# Altium integrated library Micron Memory DDR SDRAM.IntLib: 109 symbols (part 21 of 22)
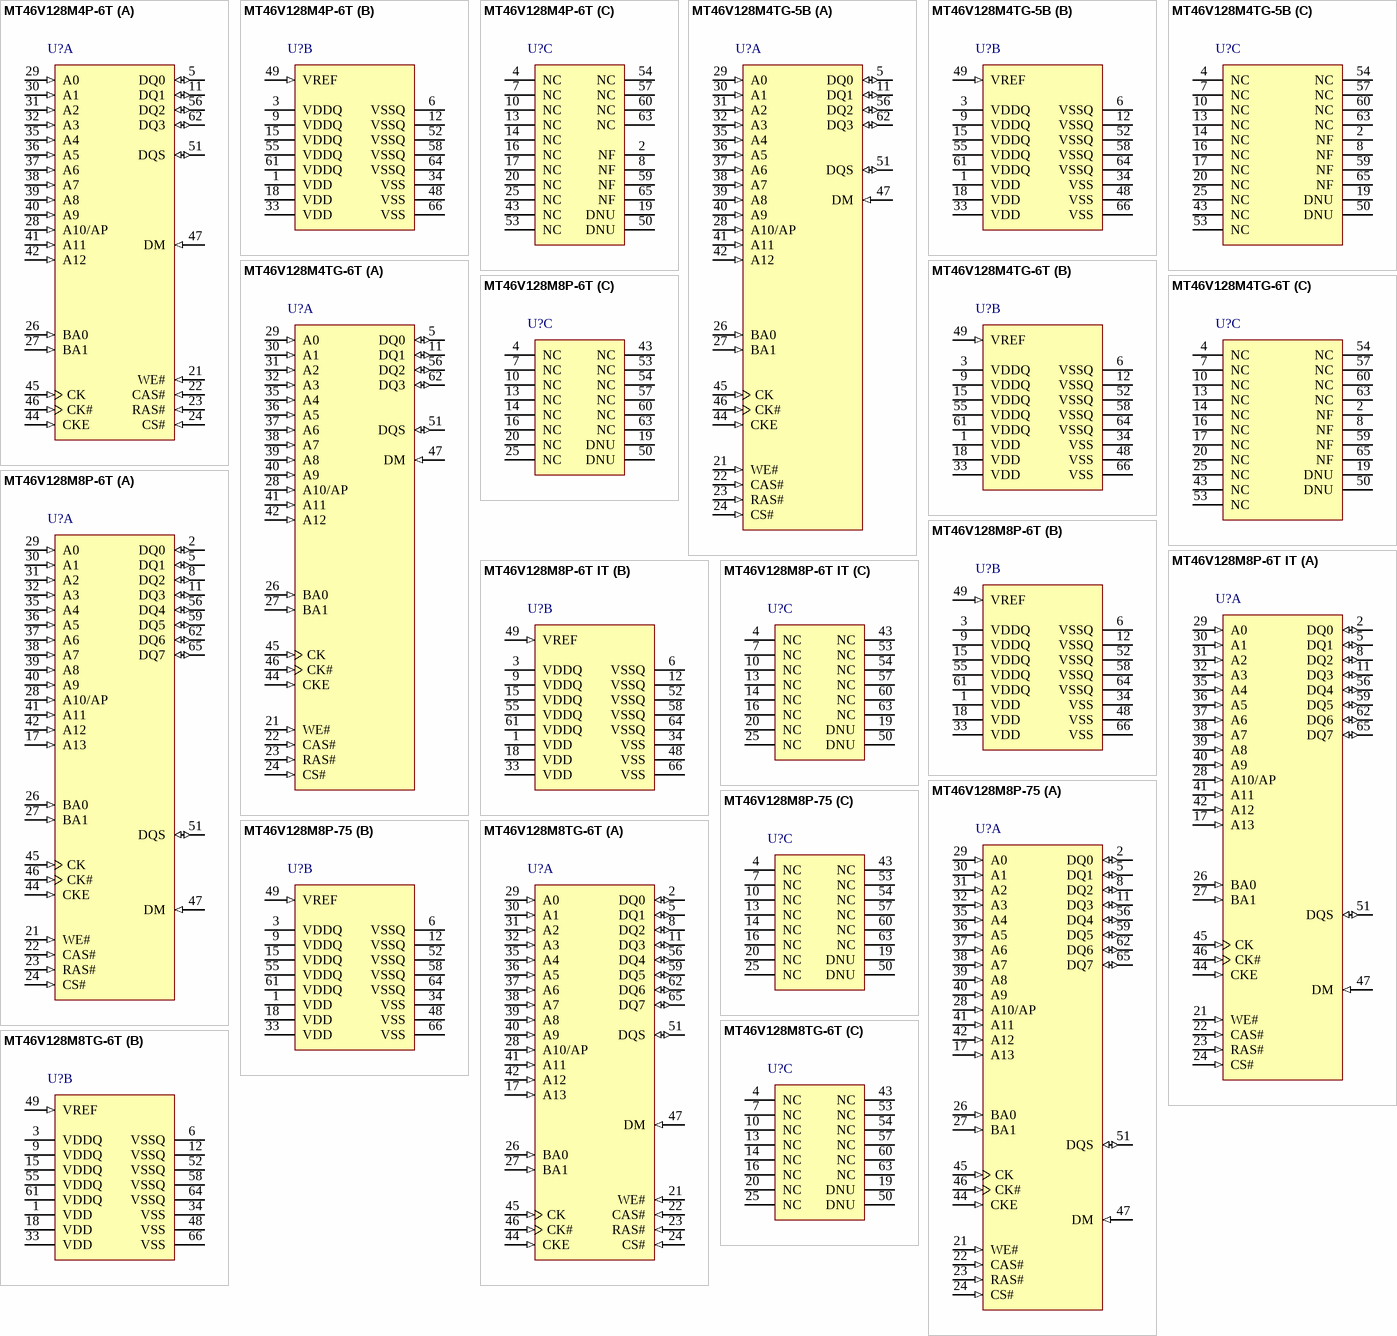
[diagram p33: symbols MT46V128M4P-6T to MT46V128M8TG-6T]

## MT46V128M4P-6T
designator U?
512Mb 167MHz DDR SDRAM, 128Mb x 4, 6ns, 2.5V, 0 to 70 degC, 66-Pin TSOP, Pb-Free; Manufacturer: Micron; PartNumber: MT46V128M4P-6T; Op. Temp.: 0C to +70C; DatasheetVersion: Rev.Q; PackageVersion: Rev.R; PackageReference: MICT-P-66; PackageDescription: 66-Pin Thin Small Outline Package, 10.16 x 22.22 mm, Pitch 0.65 mm; Clock Rate: 167 MHz; Cycle Time: 6ns; Density: 512Mb; Depth: 128Mb; Package: TSOP; Part Status: EOL Pending; Pin Count: 66-pin; RoHS: Yes; Voltage: 2.5V; Width: x4; Mounting Technology: Surface Mount; ComponentLink1Description: Manufacturer URL; ComponentLink1URL: http://www.micron.com/; ComponentLink2Description: Datasheet; ComponentLink2URL: http://www.micron.com/~/media/Documents/Products/Data Sheet/DRAM/512Mb_DDR.pdf; ComponentLink3Description: Package Specification; ComponentLink3URL: http://www.micron.com/~/media/Documents/Products/Data%20Sheet/DRAM/256Mb_DDR.pdf
footprint MICT-P-66_N (SOP, 66-Leads, Body 22.22x10.16mm, Pitch 0.65mm, , IPC Medium Density)
part A pins: 5 DQ0 (io) "Data input/output: Data bus for x4.", 11 DQ1 (io) "Data input/output: Data bus for x4.", 21 WE# (in) "Command inputs: RAS#, CAS#, and WE# (along with CS#) define thecommand being entered.", 22 CAS# (in) "Command inputs: RAS#, CAS#, and WE# (along with CS#) define thecommand being entered.", 23 RAS# (in) "Command inputs: RAS#, CAS#, and WE# (along with CS#) define thecommand being entered.", 24 CS# (in) "Chip select: CS# enables (registered LOW) and disables (registeredHIGH) the command decoder. All commands are masked when CS# isregistered HIGH. CS# provides for external bank selection on systems withmultiple banks. CS# is (See Datasheet)", 26 BA0 (in) "Bank address inputs: BA0 and BA1 define to which bank an ACTIVE,READ, WRITE, or PRECHARGE command is being applied. BA0 and BA1also define which mode register (mode register or extended moderegister) is loaded during the (See Datasheet)", 27 BA1 (in) "Bank address inputs: BA0 and BA1 define to which bank an ACTIVE,READ, WRITE, or PRECHARGE command is being applied. BA0 and BA1also define which mode register (mode register or extended moderegister) is loaded during the (See Datasheet)", 28 A10/AP (in) "Address inputs: Provide the row address for ACTIVE commands, and thecolumn address and auto precharge bit (A10) for READ/WRITEcommands, to select one location out of the memory array in therespective bank. A10 sampled during (See Datasheet)", 29 A0 (in) "Address inputs: Provide the row address for ACTIVE commands, and thecolumn address and auto precharge bit (A10) for READ/WRITEcommands, to select one location out of the memory array in therespective bank. A10 sampled during (See Datasheet)", 30 A1 (in) "Address inputs: Provide the row address for ACTIVE commands, and thecolumn address and auto precharge bit (A10) for READ/WRITEcommands, to select one location out of the memory array in therespective bank. A10 sampled during (See Datasheet)", 31 A2 (in) "Address inputs: Provide the row address for ACTIVE commands, and thecolumn address and auto precharge bit (A10) for READ/WRITEcommands, to select one location out of the memory array in therespective bank. A10 sampled during (See Datasheet)", 32 A3 (in) "Address inputs: Provide the row address for ACTIVE commands, and thecolumn address and auto precharge bit (A10) for READ/WRITEcommands, to select one location out of the memory array in therespective bank. A10 sampled during (See Datasheet)", 35 A4 (in) "Address inputs: Provide the row address for ACTIVE commands, and thecolumn address and auto precharge bit (A10) for READ/WRITEcommands, to select one location out of the memory array in therespective bank. A10 sampled during (See Datasheet)", 36 A5 (in) "Address inputs: Provide the row address for ACTIVE commands, and thecolumn address and auto precharge bit (A10) for READ/WRITEcommands, to select one location out of the memory array in therespective bank. A10 sampled during (See Datasheet)", 37 A6 (in) "Address inputs: Provide the row address for ACTIVE commands, and thecolumn address and auto precharge bit (A10) for READ/WRITEcommands, to select one location out of the memory array in therespective bank. A10 sampled during (See Datasheet)", 38 A7 (in) "Address inputs: Provide the row address for ACTIVE commands, and thecolumn address and auto precharge bit (A10) for READ/WRITEcommands, to select one location out of the memory array in therespective bank. A10 sampled during (See Datasheet)", 39 A8 (in) "Address inputs: Provide the row address for ACTIVE commands, and thecolumn address and auto precharge bit (A10) for READ/WRITEcommands, to select one location out of the memory array in therespective bank. A10 sampled during (See Datasheet)", 40 A9 (in) "Address inputs: Provide the row address for ACTIVE commands, and thecolumn address and auto precharge bit (A10) for READ/WRITEcommands, to select one location out of the memory array in therespective bank. A10 sampled during (See Datasheet)", 41 A11 (in) "Address inputs: Provide the row address for ACTIVE commands, and thecolumn address and auto precharge bit (A10) for READ/WRITEcommands, to select one location out of the memory array in therespective bank. A10 sampled during (See Datasheet)", 42 A12 (in) "Address inputs: Provide the row address for ACTIVE commands, and thecolumn address and auto precharge bit (A10) for READ/WRITEcommands, to select one location out of the memory array in therespective bank. A10 sampled during (See Datasheet)", 44 CKE (in) "Clock enable: CKE HIGH activates and CKE LOW deactivates the internalclock, input buffers, and output drivers. Taking CKE LOW providesPRECHARGE POWER-DOWN and SELF REFRESH operations (all banksidle), or ACTIVE POWER-DOWN (See Datasheet)", 45 CK (in) "Clock: CK and CK# are differential clock inputs. All address and controlinput signals are sampled on the crossing of the positive edge of CK andnegative edge of CK#. Output data (DQ and DQS) is referenced to thecrossings of (See Datasheet)", 46 CK# (in) "Clock: CK and CK# are differential clock inputs. All address and controlinput signals are sampled on the crossing of the positive edge of CK andnegative edge of CK#. Output data (DQ and DQS) is referenced to thecrossings of (See Datasheet)", 47 DM (in) "Input data mask: DM is an input mask signal for write data. Input datais masked when DM is sampled HIGH along with that input data during awrite access. DM is sampled on both edges of DQS. Although DM pins areinput-only, the (See Datasheet)", 51 DQS (io) "Data strobe: Output with read data, input with write data. DQS is edgealigned with read data, centered in write data. It is used to capture data.For the x16, LDQS is DQS for DQ[7:0] and UDQS is DQS for DQ[15:8]. Pin16 (E7) (See Datasheet)", 56 DQ2 (io) "Data input/output: Data bus for x4.", 62 DQ3 (io) "Data input/output: Data bus for x4."
part B pins: 1 VDD (power) "Power supply: 2.5V +/-0.2V. (2.6V +/-0.1V for DDR400).", 3 VDDQ (power) "DQ power supply: 2.5V +/-0.2V (2.6V +/-0.1V for DDR400). Isolated on thedie for improved noise immunity.", 6 VSSQ (power) "DQ ground: Isolated on the die for improved noise immunity.", 9 VDDQ (power) "DQ power supply: 2.5V +/-0.2V (2.6V +/-0.1V for DDR400). Isolated on thedie for improved noise immunity.", 12 VSSQ (power) "DQ ground: Isolated on the die for improved noise immunity.", 15 VDDQ (power) "DQ power supply: 2.5V +/-0.2V (2.6V +/-0.1V for DDR400). Isolated on thedie for improved noise immunity.", 18 VDD (power) "Power supply: 2.5V +/-0.2V. (2.6V +/-0.1V for DDR400).", 33 VDD (power) "Power supply: 2.5V +/-0.2V. (2.6V +/-0.1V for DDR400).", 34 VSS (power) "Ground.", 48 VSS (power) "Ground.", 49 VREF (in) "SSTL_2 reference voltage.", 52 VSSQ (power) "DQ ground: Isolated on the die for improved noise immunity.", 55 VDDQ (power) "DQ power supply: 2.5V +/-0.2V (2.6V +/-0.1V for DDR400). Isolated on thedie for improved noise immunity.", 58 VSSQ (power) "DQ ground: Isolated on the die for improved noise immunity.", 61 VDDQ (power) "DQ power supply: 2.5V +/-0.2V (2.6V +/-0.1V for DDR400). Isolated on thedie for improved noise immunity.", 64 VSSQ (power) "DQ ground: Isolated on the die for improved noise immunity.", 66 VSS (power) "Ground."
part C pins: 2 NF "No function for x4: These pins should be left unconnected.", 4 NC "No connect for x4: These pins should be left unconnected.", 7 NC "No connect for x4: These pins should be left unconnected.", 8 NF "No function for x4: These pins should be left unconnected.", 10 NC "No connect for x4: These pins should be left unconnected.", 13 NC "No connect for x4: These pins should be left unconnected.", 14 NC "No connect for x4: These pins should be left unconnected.", 16 NC "No connect for x4: These pins should be left unconnected.", 17 NC "No connect for x4: These pins should be left unconnected.", 19 DNU "Do not use: Must float to minimize noise on VREF", 20 NC "No connect for x4: These pins should be left unconnected.", 25 NC "No connect for x4: These pins should be left unconnected.", 43 NC "No connect for x4: These pins should be left unconnected.", 50 DNU "Do not use: Must float to minimize noise on VREF.", 53 NC "No connect for x4: These pins should be left unconnected.", 54 NC "No connect for x4: These pins should be left unconnected.", 57 NC "No connect for x4: These pins should be left unconnected.", 59 NF "No function for x4: These pins should be left unconnected.", 60 NC "No connect for x4: These pins should be left unconnected.", 63 NC "No connect for x4: These pins should be left unconnected.", 65 NF "No function for x4: These pins should be left unconnected."

## MT46V128M4TG-5B
designator U?
512Mb 200MHz DDR SDRAM, 128Mb x 4, 5ns, 2.6V, 0 to 70 degC, 66-Pin TSOP; Manufacturer: Micron; PartNumber: MT46V128M4TG-5B; Op. Temp.: 0C to +70C; DatasheetVersion: Rev.Q; PackageReference: MICT-TG-66; PackageDescription: 66-Pin Thin Small Outline Package, 10.16 x 22.22 mm, Pitch 0.65 mm; Clock Rate: 200 MHz; Cycle Time: 5ns; Density: 512Mb; Depth: 128Mb; Package: TSOP; Part Status: Production; Pin Count: 66-pin; RoHS: 5/6; Voltage: 2.6V; Width: x4; Mounting Technology: Surface Mount; ComponentLink1Description: Manufacturer URL; ComponentLink1URL: http://www.micron.com/; ComponentLink2Description: Datasheet; ComponentLink2URL: http://www.micron.com/~/media/Documents/Products/Data Sheet/DRAM/512Mb_DDR.pdf; ComponentLink3Description: Package Specification; ComponentLink3URL: http://www.micron.com/~/media/Documents/Products/Data%20Sheet/DRAM/256Mb_DDR.pdf
footprint MICT-TG-66_N (SOP, 66-Leads, Body 22.22x10.16mm, Pitch 0.65mm, IPC Medium Density)
part A pins: 5 DQ0 (io) "Data input/output: Data bus for x4.", 11 DQ1 (io) "Data input/output: Data bus for x4.", 21 WE# (in) "Command inputs: RAS#, CAS#, and WE# (along with CS#) define the command being entered.", 22 CAS# (in) "Command inputs: RAS#, CAS#, and WE# (along with CS#) define the command being entered.", 23 RAS# (in) "Command inputs: RAS#, CAS#, and WE# (along with CS#) define the command being entered.", 24 CS# (in) "Chip select: CS# enables (registered LOW) and disables (registered HIGH) the command decoder. All commands are masked when CS# is registered HIGH. CS# provides for external bank selection on systems with multiple banks. CS# (See Datasheet)", 26 BA0 (in) "Bank address inputs: BA0 and BA1 define to which bank an ACTIVE, READ, WRITE, or PRECHARGE command is being applied. BA0 and BA1 also define which mode register (mode register or extended mode register) is loaded during the (See Datasheet)", 27 BA1 (in) "Bank address inputs: BA0 and BA1 define to which bank an ACTIVE, READ, WRITE, or PRECHARGE command is being applied. BA0 and BA1 also define which mode register (mode register or extended mode register) is loaded during the (See Datasheet)", 28 A10/AP (in) "Address inputs: Provide the row address for ACTIVE commands, and the column address and auto precharge bit (A10) for READ/WRITE commands, to select one location out of the memory array in the respective bank. A10 sampled (See Datasheet)", 29 A0 (in) "Address inputs: Provide the row address for ACTIVE commands, and the column address and auto precharge bit (A10) for READ/WRITE commands, to select one location out of the memory array in the respective bank. A10 sampled (See Datasheet)", 30 A1 (in) "Address inputs: Provide the row address for ACTIVE commands, and the column address and auto precharge bit (A10) for READ/WRITE commands, to select one location out of the memory array in the respective bank. A10 sampled (See Datasheet)", 31 A2 (in) "Address inputs: Provide the row address for ACTIVE commands, and the column address and auto precharge bit (A10) for READ/WRITE commands, to select one location out of the memory array in the respective bank. A10 sampled (See Datasheet)", 32 A3 (in) "Address inputs: Provide the row address for ACTIVE commands, and the column address and auto precharge bit (A10) for READ/WRITE commands, to select one location out of the memory array in the respective bank. A10 sampled (See Datasheet)", 35 A4 (in) "Address inputs: Provide the row address for ACTIVE commands, and the column address and auto precharge bit (A10) for READ/WRITE commands, to select one location out of the memory array in the respective bank. A10 sampled (See Datasheet)", 36 A5 (in) "Address inputs: Provide the row address for ACTIVE commands, and the column address and auto precharge bit (A10) for READ/WRITE commands, to select one location out of the memory array in the respective bank. A10 sampled (See Datasheet)", 37 A6 (in) "Address inputs: Provide the row address for ACTIVE commands, and the column address and auto precharge bit (A10) for READ/WRITE commands, to select one location out of the memory array in the respective bank. A10 sampled (See Datasheet)", 38 A7 (in) "Address inputs: Provide the row address for ACTIVE commands, and the column address and auto precharge bit (A10) for READ/WRITE commands, to select one location out of the memory array in the respective bank. A10 sampled (See Datasheet)", 39 A8 (in) "Address inputs: Provide the row address for ACTIVE commands, and the column address and auto precharge bit (A10) for READ/WRITE commands, to select one location out of the memory array in the respective bank. A10 sampled (See Datasheet)", 40 A9 (in) "Address inputs: Provide the row address for ACTIVE commands, and the column address and auto precharge bit (A10) for READ/WRITE commands, to select one location out of the memory array in the respective bank. A10 sampled (See Datasheet)", 41 A11 (in) "Address inputs: Provide the row address for ACTIVE commands, and the column address and auto precharge bit (A10) for READ/WRITE commands, to select one location out of the memory array in the respective bank. A10 sampled (See Datasheet)", 42 A12 (in) "Address inputs: Provide the row address for ACTIVE commands, and the column address and auto precharge bit (A10) for READ/WRITE commands, to select one location out of the memory array in the respective bank. A10 sampled (See Datasheet)", 44 CKE (in) "Clock enable: CKE HIGH activates and CKE LOW deactivates the internal clock, input buffers, and output drivers. Taking CKE LOW provides PRECHARGE POWER-DOWN and SELF REFRESH operations (all banks idle), or ACTIVE POWER-DOWN (See Datasheet)", 45 CK (in) "Clock: CK and CK# are differential clock inputs. All address and control input signals are sampled on the crossing of the positive edge of CK and negative edge of CK#. Output data (DQ and DQS) is referenced to the crossings (See Datasheet)", 46 CK# (in) "Clock: CK and CK# are differential clock inputs. All address and control input signals are sampled on the crossing of the positive edge of CK and negative edge of CK#. Output data (DQ and DQS) is referenced to the crossings (See Datasheet)", 47 DM (in) "Input data mask: DM is an input mask signal for write data. Input data is masked when DM is sampled HIGH along with that input data during a write access. DM is sampled on both edges of DQS. Although DM pins are input-only, (See Datasheet)", 51 DQS (io) "Data strobe: Output with read data, input with write data. DQS is edgealigned with read data, centered in write data. It is used to capture data. For the x16, LDQS is DQS for DQ[7:0] and UDQS is DQS for DQ[15:8].", 56 DQ2 (io) "Data input/output: Data bus for x4.", 62 DQ3 (io) "Data input/output: Data bus for x4."
part B pins: 1 VDD (power) "Power supply: 2.5V +/-0.2V. (2.6V +/-0.1V for DDR400).", 3 VDDQ (power) "DQ power supply: 2.5V +/-0.2V (2.6V +/-0.1V for DDR400). Isolated on the die for improved noise immunity.", 6 VSSQ (power) "DQ ground: Isolated on the die for improved noise immunity.", 9 VDDQ (power) "DQ power supply: 2.5V +/-0.2V (2.6V +/-0.1V for DDR400). Isolated on the die for improved noise immunity.", 12 VSSQ (power) "DQ ground: Isolated on the die for improved noise immunity.", 15 VDDQ (power) "DQ power supply: 2.5V +/-0.2V (2.6V +/-0.1V for DDR400). Isolated on the die for improved noise immunity.", 18 VDD (power) "Power supply: 2.5V +/-0.2V. (2.6V +/-0.1V for DDR400).", 33 VDD (power) "Power supply: 2.5V +/-0.2V. (2.6V +/-0.1V for DDR400).", 34 VSS (power) "Ground.", 48 VSS (power) "Ground.", 49 VREF (in) "SSTL_2 reference voltage.", 52 VSSQ (power) "DQ ground: Isolated on the die for improved noise immunity.", 55 VDDQ (power) "DQ power supply: 2.5V +/-0.2V (2.6V +/-0.1V for DDR400). Isolated on the die for improved noise immunity.", 58 VSSQ (power) "DQ ground: Isolated on the die for improved noise immunity.", 61 VDDQ (power) "DQ power supply: 2.5V +/-0.2V (2.6V +/-0.1V for DDR400). Isolated on the die for improved noise immunity.", 64 VSSQ (power) "DQ ground: Isolated on the die for improved noise immunity.", 66 VSS (power) "Ground."
part C pins: 2 NF "No function for x4: These pins should be left unconnected.", 4 NC "No connect for x4: These pins should be left unconnected.", 7 NC "No connect for x4: These pins should be left unconnected.", 8 NF "No function for x4: These pins should be left unconnected.", 10 NC "No connect for x4: These pins should be left unconnected.", 13 NC "No connect for x4: These pins should be left unconnected.", 14 NC "No connect for x4: These pins should be left unconnected.", 16 NC "No connect for x4: These pins should be left unconnected.", 17 NC "No connect for x4: These pins should be left unconnected.", 19 DNU "Do not use: Must float to minimize noise on VREF.", 20 NC "No connect for x4: These pins should be left unconnected.", 25 NC "No connect for x4: These pins should be left unconnected.", 43 NC "No connect for x4: These pins should be left unconnected.", 50 DNU "Do not use: Must float to minimize noise on VREF.", 53 NC "No connect for x4: These pins should be left unconnected.", 54 NC "No connect for x4: These pins should be left unconnected.", 57 NC "No connect for x4: These pins should be left unconnected.", 59 NF "No function for x4: These pins should be left unconnected.", 60 NC "No connect for x4: These pins should be left unconnected.", 63 NC "No connect for x4: These pins should be left unconnected.", 65 NF "No function for x4: These pins should be left unconnected."

## MT46V128M4TG-6T
designator U?
512Mb 167MHz DDR SDRAM, 128Mb x 4, 6ns, 2.5V, 0 to 70 degC, 66-Pin TSOP; Manufacturer: Micron; PartNumber: MT46V128M4TG-6T; Op. Temp.: 0C to +70C; DatasheetVersion: Rev.Q; PackageReference: MICT-TG-66; PackageDescription: 66-Pin Thin Small Outline Package, 10.16 x 22.22 mm, Pitch 0.65 mm; Clock Rate: 167 MHz; Cycle Time: 6ns; Density: 512Mb; Depth: 128Mb; Package: TSOP; Part Status: EOL Pending; Pin Count: 66-pin; RoHS: 5/6; Voltage: 2.5V; Width: x4; Mounting Technology: Surface Mount; ComponentLink1Description: Manufacturer URL; ComponentLink1URL: http://www.micron.com/; ComponentLink2Description: Datasheet; ComponentLink2URL: http://www.micron.com/~/media/Documents/Products/Data Sheet/DRAM/512Mb_DDR.pdf; ComponentLink3Description: Package Specification; ComponentLink3URL: http://www.micron.com/~/media/Documents/Products/Data%20Sheet/DRAM/256Mb_DDR.pdf
footprint MICT-TG-66_N (SOP, 66-Leads, Body 22.22x10.16mm, Pitch 0.65mm, IPC Medium Density)
part A pins: 5 DQ0 (io) "Data input/output: Data bus for x4.", 11 DQ1 (io) "Data input/output: Data bus for x4.", 21 WE# (in) "Command inputs: RAS#, CAS#, and WE# (along with CS#) define the command being entered.", 22 CAS# (in) "Command inputs: RAS#, CAS#, and WE# (along with CS#) define the command being entered.", 23 RAS# (in) "Command inputs: RAS#, CAS#, and WE# (along with CS#) define the command being entered.", 24 CS# (in) "Chip select: CS# enables (registered LOW) and disables (registered HIGH) the command decoder. All commands are masked when CS# is registered HIGH. CS# provides for external bank selection on systems with multiple banks. CS# (See Datasheet)", 26 BA0 (in) "Bank address inputs: BA0 and BA1 define to which bank an ACTIVE, READ, WRITE, or PRECHARGE command is being applied. BA0 and BA1 also define which mode register (mode register or extended mode register) is loaded during the (See Datasheet)", 27 BA1 (in) "Bank address inputs: BA0 and BA1 define to which bank an ACTIVE, READ, WRITE, or PRECHARGE command is being applied. BA0 and BA1 also define which mode register (mode register or extended mode register) is loaded during the (See Datasheet)", 28 A10/AP (in) "Address inputs: Provide the row address for ACTIVE commands, and the column address and auto precharge bit (A10) for READ/WRITE commands, to select one location out of the memory array in the respective bank. A10 sampled (See Datasheet)", 29 A0 (in) "Address inputs: Provide the row address for ACTIVE commands, and the column address and auto precharge bit (A10) for READ/WRITE commands, to select one location out of the memory array in the respective bank. A10 sampled (See Datasheet)", 30 A1 (in) "Address inputs: Provide the row address for ACTIVE commands, and the column address and auto precharge bit (A10) for READ/WRITE commands, to select one location out of the memory array in the respective bank. A10 sampled (See Datasheet)", 31 A2 (in) "Address inputs: Provide the row address for ACTIVE commands, and the column address and auto precharge bit (A10) for READ/WRITE commands, to select one location out of the memory array in the respective bank. A10 sampled (See Datasheet)", 32 A3 (in) "Address inputs: Provide the row address for ACTIVE commands, and the column address and auto precharge bit (A10) for READ/WRITE commands, to select one location out of the memory array in the respective bank. A10 sampled (See Datasheet)", 35 A4 (in) "Address inputs: Provide the row address for ACTIVE commands, and the column address and auto precharge bit (A10) for READ/WRITE commands, to select one location out of the memory array in the respective bank. A10 sampled (See Datasheet)", 36 A5 (in) "Address inputs: Provide the row address for ACTIVE commands, and the column address and auto precharge bit (A10) for READ/WRITE commands, to select one location out of the memory array in the respective bank. A10 sampled (See Datasheet)", 37 A6 (in) "Address inputs: Provide the row address for ACTIVE commands, and the column address and auto precharge bit (A10) for READ/WRITE commands, to select one location out of the memory array in the respective bank. A10 sampled (See Datasheet)", 38 A7 (in) "Address inputs: Provide the row address for ACTIVE commands, and the column address and auto precharge bit (A10) for READ/WRITE commands, to select one location out of the memory array in the respective bank. A10 sampled (See Datasheet)", 39 A8 (in) "Address inputs: Provide the row address for ACTIVE commands, and the column address and auto precharge bit (A10) for READ/WRITE commands, to select one location out of the memory array in the respective bank. A10 sampled (See Datasheet)", 40 A9 (in) "Address inputs: Provide the row address for ACTIVE commands, and the column address and auto precharge bit (A10) for READ/WRITE commands, to select one location out of the memory array in the respective bank. A10 sampled (See Datasheet)", 41 A11 (in) "Address inputs: Provide the row address for ACTIVE commands, and the column address and auto precharge bit (A10) for READ/WRITE commands, to select one location out of the memory array in the respective bank. A10 sampled (See Datasheet)", 42 A12 (in) "Address inputs: Provide the row address for ACTIVE commands, and the column address and auto precharge bit (A10) for READ/WRITE commands, to select one location out of the memory array in the respective bank. A10 sampled (See Datasheet)", 44 CKE (in) "Clock enable: CKE HIGH activates and CKE LOW deactivates the internal clock, input buffers, and output drivers. Taking CKE LOW provides PRECHARGE POWER-DOWN and SELF REFRESH operations (all banks idle), or ACTIVE POWER-DOWN (See Datasheet)", 45 CK (in) "Clock: CK and CK# are differential clock inputs. All address and control input signals are sampled on the crossing of the positive edge of CK and negative edge of CK#. Output data (DQ and DQS) is referenced to the crossings (See Datasheet)", 46 CK# (in) "Clock: CK and CK# are differential clock inputs. All address and control input signals are sampled on the crossing of the positive edge of CK and negative edge of CK#. Output data (DQ and DQS) is referenced to the crossings (See Datasheet)", 47 DM (in) "Input data mask: DM is an input mask signal for write data. Input data is masked when DM is sampled HIGH along with that input data during a write access. DM is sampled on both edges of DQS. Although DM pins are input-only, (See Datasheet)", 51 DQS (io) "Data strobe: Output with read data, input with write data. DQS is edgealigned with read data, centered in write data. It is used to capture data. For the x16, LDQS is DQS for DQ[7:0] and UDQS is DQS for DQ[15:8].", 56 DQ2 (io) "Data input/output: Data bus for x4.", 62 DQ3 (io) "Data input/output: Data bus for x4."
part B pins: 1 VDD (power) "Power supply: 2.5V +/-0.2V. (2.6V +/-0.1V for DDR400).", 3 VDDQ (power) "DQ power supply: 2.5V +/-0.2V (2.6V +/-0.1V for DDR400). Isolated on the die for improved noise immunity.", 6 VSSQ (power) "DQ ground: Isolated on the die for improved noise immunity.", 9 VDDQ (power) "DQ power supply: 2.5V +/-0.2V (2.6V +/-0.1V for DDR400). Isolated on the die for improved noise immunity.", 12 VSSQ (power) "DQ ground: Isolated on the die for improved noise immunity.", 15 VDDQ (power) "DQ power supply: 2.5V +/-0.2V (2.6V +/-0.1V for DDR400). Isolated on the die for improved noise immunity.", 18 VDD (power) "Power supply: 2.5V +/-0.2V. (2.6V +/-0.1V for DDR400).", 33 VDD (power) "Power supply: 2.5V +/-0.2V. (2.6V +/-0.1V for DDR400).", 34 VSS (power) "Ground.", 48 VSS (power) "Ground.", 49 VREF (in) "SSTL_2 reference voltage.", 52 VSSQ (power) "DQ ground: Isolated on the die for improved noise immunity.", 55 VDDQ (power) "DQ power supply: 2.5V +/-0.2V (2.6V +/-0.1V for DDR400). Isolated on the die for improved noise immunity.", 58 VSSQ (power) "DQ ground: Isolated on the die for improved noise immunity.", 61 VDDQ (power) "DQ power supply: 2.5V +/-0.2V (2.6V +/-0.1V for DDR400). Isolated on the die for improved noise immunity.", 64 VSSQ (power) "DQ ground: Isolated on the die for improved noise immunity.", 66 VSS (power) "Ground."
part C pins: 2 NF "No function for x4: These pins should be left unconnected.", 4 NC "No connect for x4: These pins should be left unconnected.", 7 NC "No connect for x4: These pins should be left unconnected.", 8 NF "No function for x4: These pins should be left unconnected.", 10 NC "No connect for x4: These pins should be left unconnected.", 13 NC "No connect for x4: These pins should be left unconnected.", 14 NC "No connect for x4: These pins should be left unconnected.", 16 NC "No connect for x4: These pins should be left unconnected.", 17 NC "No connect for x4: These pins should be left unconnected.", 19 DNU "Do not use: Must float to minimize noise on VREF.", 20 NC "No connect for x4: These pins should be left unconnected.", 25 NC "No connect for x4: These pins should be left unconnected.", 43 NC "No connect for x4: These pins should be left unconnected.", 50 DNU "Do not use: Must float to minimize noise on VREF.", 53 NC "No connect for x4: These pins should be left unconnected.", 54 NC "No connect for x4: These pins should be left unconnected.", 57 NC "No connect for x4: These pins should be left unconnected.", 59 NF "No function for x4: These pins should be left unconnected.", 60 NC "No connect for x4: These pins should be left unconnected.", 63 NC "No connect for x4: These pins should be left unconnected.", 65 NF "No function for x4: These pins should be left unconnected."

## MT46V128M8P-6T
designator U?
1Gb 167MHz DDR SDRAM, 128Mb x 8, 6ns, 2.5V, 0 to 70 degC, 66-Pin TSOP, Pb-Free; Manufacturer: Micron; PartNumber: MT46V128M8P-6T; Op. Temp.: 0C to +70C; DatasheetVersion: Rev.J; PackageVersion: Rev.R; PackageReference: MICT-P-66; PackageDescription: 66-Pin Thin Small Outline Package, 10.16 x 22.22 mm, Pitch 0.65 mm; Clock Rate: 167 MHz; Cycle Time: 6ns; Density: 1Gb; Depth: 128Mb; Package: TSOP; Part Status: Production; Pin Count: 66-pin; RoHS: Yes; Voltage: 2.5V; Width: x8; Mounting Technology: Surface Mount; ComponentLink1Description: Manufacturer URL; ComponentLink1URL: http://www.micron.com/; ComponentLink2Description: Datasheet; ComponentLink2URL: http://www.micron.com/~/media/Documents/Products/Data Sheet/DRAM/1Gb_DDR.pdf; ComponentLink3Description: Package Specification; ComponentLink3URL: http://www.micron.com/~/media/Documents/Products/Data%20Sheet/DRAM/256Mb_DDR.pdf
footprint MICT-P-66_N (SOP, 66-Leads, Body 22.22x10.16mm, Pitch 0.65mm, , IPC Medium Density)
part A pins: 2 DQ0 (io) "Data input/output: Data bus for x8.", 5 DQ1 (io) "Data input/output: Data bus for x8.", 8 DQ2 (io) "Data input/output: Data bus for x8.", 11 DQ3 (io) "Data input/output: Data bus for x8.", 17 A13 (in) "Address inputs: Provide the row address for ACTIVE commands, and the  column address and auto precharge bit (A10) for READ/WRITE commands,  to select one location out of the memory array in the respective bank. A10  sampled (See Datasheet)", 21 WE# (in) "Command inputs: RAS#, CAS#, and WE# (along with CS#) define the  command being entered.", 22 CAS# (in) "Command inputs: RAS#, CAS#, and WE# (along with CS#) define the  command being entered.", 23 RAS# (in) "Command inputs: RAS#, CAS#, and WE# (along with CS#) define the  command being entered.", 24 CS# (in) "Chip select: CS# enables (registered LOW) and disables (registered HIGH)  the command decoder. All commands are masked when CS# is registered  HIGH. CS# provides for external bank selection on systems with multiple  banks. (See Datasheet)", 26 BA0 (in) "Bank address inputs: BA0 and BA1 define the bank to which an ACTIVE,  READ, WRITE, or PRECHARGE command is being applied. BA0 and BA1 also  define which mode register (mode register or extended mode register) is  loaded (See Datasheet)", 27 BA1 (in) "Bank address inputs: BA0 and BA1 define the bank to which an ACTIVE,  READ, WRITE, or PRECHARGE command is being applied. BA0 and BA1 also  define which mode register (mode register or extended mode register) is  loaded (See Datasheet)", 28 A10/AP (in) "Address inputs: Provide the row address for ACTIVE commands, and the  column address and auto precharge bit (A10) for READ/WRITE commands,  to select one location out of the memory array in the respective bank. A10  sampled (See Datasheet)", 29 A0 (in) "Address inputs: Provide the row address for ACTIVE commands, and the  column address and auto precharge bit (A10) for READ/WRITE commands,  to select one location out of the memory array in the respective bank. A10  sampled (See Datasheet)", 30 A1 (in) "Address inputs: Provide the row address for ACTIVE commands, and the  column address and auto precharge bit (A10) for READ/WRITE commands,  to select one location out of the memory array in the respective bank. A10  sampled (See Datasheet)", 31 A2 (in) "Address inputs: Provide the row address for ACTIVE commands, and the  column address and auto precharge bit (A10) for READ/WRITE commands,  to select one location out of the memory array in the respective bank. A10  sampled (See Datasheet)", 32 A3 (in) "Address inputs: Provide the row address for ACTIVE commands, and the  column address and auto precharge bit (A10) for READ/WRITE commands,  to select one location out of the memory array in the respective bank. A10  sampled (See Datasheet)", 35 A4 (in) "Address inputs: Provide the row address for ACTIVE commands, and the  column address and auto precharge bit (A10) for READ/WRITE commands,  to select one location out of the memory array in the respective bank. A10  sampled (See Datasheet)", 36 A5 (in) "Address inputs: Provide the row address for ACTIVE commands, and the  column address and auto precharge bit (A10) for READ/WRITE commands,  to select one location out of the memory array in the respective bank. A10  sampled (See Datasheet)", 37 A6 (in) "Address inputs: Provide the row address for ACTIVE commands, and the  column address and auto precharge bit (A10) for READ/WRITE commands,  to select one location out of the memory array in the respective bank. A10  sampled (See Datasheet)", 38 A7 (in) "Address inputs: Provide the row address for ACTIVE commands, and the  column address and auto precharge bit (A10) for READ/WRITE commands,  to select one location out of the memory array in the respective bank. A10  sampled (See Datasheet)", 39 A8 (in) "Address inputs: Provide the row address for ACTIVE commands, and the  column address and auto precharge bit (A10) for READ/WRITE commands,  to select one location out of the memory array in the respective bank. A10  sampled (See Datasheet)", 40 A9 (in) "Address inputs: Provide the row address for ACTIVE commands, and the  column address and auto precharge bit (A10) for READ/WRITE commands,  to select one location out of the memory array in the respective bank. A10  sampled (See Datasheet)", 41 A11 (in) "Address inputs: Provide the row address for ACTIVE commands, and the  column address and auto precharge bit (A10) for READ/WRITE commands,  to select one location out of the memory array in the respective bank. A10  sampled (See Datasheet)", 42 A12 (in) "Address inputs: Provide the row address for ACTIVE commands, and the  column address and auto precharge bit (A10) for READ/WRITE commands,  to select one location out of the memory array in the respective bank. A10  sampled (See Datasheet)", 44 CKE (in) "Clock enable: CKE HIGH activates and CKE LOW deactivates the internal  clock, input buffers, and output drivers. Taking CKE LOW provides  PRECHARGE power-down and SELF REFRESH operations (all banks idle) or  ACTIVE (See Datasheet)", 45 CK (in) "Clock: CK and CK# are differential clock inputs. All address and control  input signals are sampled on the crossing of the positive edge of CK and  the negative edge of CK#. Output data (DQ and DQS) is referenced to the  (See Datasheet)", 46 CK# (in) "Clock: CK and CK# are differential clock inputs. All address and control  input signals are sampled on the crossing of the positive edge of CK and  the negative edge of CK#. Output data (DQ and DQS) is referenced to the  (See Datasheet)", 47 DM (in) "Input data mask: DM is an input mask signal for write data. Input data is  masked when DM is sampled HIGH along with that input data during a  write access. DM is sampled on both edges of DQS. Although DM pins are  (See Datasheet)", 51 DQS (io) "Data strobe: Output with read data, input with write data. DQS is edgealigned with read data, center-aligned with write data. It is used to capture  data. For the x16, LDQS is DQS for DQ[7:0] and UDQS is DQS for DQ[15:8].  (See Datasheet)", 56 DQ4 (io) "Data input/output: Data bus for x8.", 59 DQ5 (io) "Data input/output: Data bus for x8.", 62 DQ6 (io) "Data input/output: Data bus for x8.", 65 DQ7 (io) "Data input/output: Data bus for x8."
part B pins: 1 VDD (power) "Power supply.", 3 VDDQ (power) "DQ power supply: Isolated on the die for improved noise immunity.", 6 VSSQ (power) "DQ ground: Isolated on the die for improved noise immunity", 9 VDDQ (power) "DQ power supply: Isolated on the die for improved noise immunity.", 12 VSSQ (power) "DQ ground: Isolated on the die for improved noise immunity", 15 VDDQ (power) "DQ power supply: Isolated on the die for improved noise immunity.", 18 VDD (power) "Power supply.", 33 VDD (power) "Power supply.", 34 VSS (power) "Ground.", 48 VSS (power) "Ground.", 49 VREF (in) "SSTL_2 reference voltage.", 52 VSSQ (power) "DQ ground: Isolated on the die for improved noise immunity", 55 VDDQ (power) "DQ power supply: Isolated on the die for improved noise immunity.", 58 VSSQ (power) "DQ ground: Isolated on the die for improved noise immunity", 61 VDDQ (power) "DQ power supply: Isolated on the die for improved noise immunity.", 64 VSSQ (power) "DQ ground: Isolated on the die for improved noise immunity", 66 VSS (power) "Ground."
part C pins: 4 NC "No connect for x8: These pins should be left unconnected.", 7 NC "No connect for x8: These pins should be left unconnected.", 10 NC "No connect for x8: These pins should be left unconnected.", 13 NC "No connect for x8: These pins should be left unconnected.", 14 NC "No connect for x8: These pins should be left unconnected.", 16 NC "No connect for x8: These pins should be left unconnected.", 19 DNU "Do not use: Must float to minimize noise on VREF .", 20 NC "No connect for x8: These pins should be left unconnected.", 25 NC "No connect for x8: These pins should be left unconnected.", 43 NC "No connect for x8: These pins should be left unconnected.", 50 DNU "Do not use: Must float to minimize noise on VREF .", 53 NC "No connect for x8: These pins should be left unconnected.", 54 NC "No connect for x8: These pins should be left unconnected.", 57 NC "No connect for x8: These pins should be left unconnected.", 60 NC "No connect for x8: These pins should be left unconnected.", 63 NC "No connect for x8: These pins should be left unconnected."

## MT46V128M8P-6T IT
designator U?
1Gb 167MHz DDR SDRAM, 128Mb x 8, 6ns, 2.5V, -40 to 85 degC, 66-Pin TSOP, Pb-Free; Manufacturer: Micron; PartNumber: MT46V128M8P-6T IT; Op. Temp.: -40C to +85C; DatasheetVersion: Rev.J; PackageVersion: Rev.R; PackageReference: MICT-P-66; PackageDescription: 66-Pin Thin Small Outline Package, 10.16 x 22.22 mm, Pitch 0.65 mm; Clock Rate: 167 MHz; Cycle Time: 6ns; Density: 1Gb; Depth: 128Mb; Package: TSOP; Part Status: Production; Pin Count: 66-pin; RoHS: Yes; Voltage: 2.5V; Width: x8; Mounting Technology: Surface Mount; ComponentLink1Description: Manufacturer URL; ComponentLink1URL: http://www.micron.com/; ComponentLink2Description: Datasheet; ComponentLink2URL: http://www.micron.com/~/media/Documents/Products/Data Sheet/DRAM/1Gb_DDR.pdf; ComponentLink3Description: Package Specification; ComponentLink3URL: http://www.micron.com/~/media/Documents/Products/Data%20Sheet/DRAM/256Mb_DDR.pdf
footprint MICT-P-66_N (SOP, 66-Leads, Body 22.22x10.16mm, Pitch 0.65mm, , IPC Medium Density)
part A pins: 2 DQ0 (io) "Data input/output: Data bus for x8.", 5 DQ1 (io) "Data input/output: Data bus for x8.", 8 DQ2 (io) "Data input/output: Data bus for x8.", 11 DQ3 (io) "Data input/output: Data bus for x8.", 17 A13 (in) "Address inputs: Provide the row address for ACTIVE commands, and the  column address and auto precharge bit (A10) for READ/WRITE commands,  to select one location out of the memory array in the respective bank. A10  sampled (See Datasheet)", 21 WE# (in) "Command inputs: RAS#, CAS#, and WE# (along with CS#) define the  command being entered.", 22 CAS# (in) "Command inputs: RAS#, CAS#, and WE# (along with CS#) define the  command being entered.", 23 RAS# (in) "Command inputs: RAS#, CAS#, and WE# (along with CS#) define the  command being entered.", 24 CS# (in) "Chip select: CS# enables (registered LOW) and disables (registered HIGH)  the command decoder. All commands are masked when CS# is registered  HIGH. CS# provides for external bank selection on systems with multiple  banks. (See Datasheet)", 26 BA0 (in) "Bank address inputs: BA0 and BA1 define the bank to which an ACTIVE,  READ, WRITE, or PRECHARGE command is being applied. BA0 and BA1 also  define which mode register (mode register or extended mode register) is  loaded (See Datasheet)", 27 BA1 (in) "Bank address inputs: BA0 and BA1 define the bank to which an ACTIVE,  READ, WRITE, or PRECHARGE command is being applied. BA0 and BA1 also  define which mode register (mode register or extended mode register) is  loaded (See Datasheet)", 28 A10/AP (in) "Address inputs: Provide the row address for ACTIVE commands, and the  column address and auto precharge bit (A10) for READ/WRITE commands,  to select one location out of the memory array in the respective bank. A10  sampled (See Datasheet)", 29 A0 (in) "Address inputs: Provide the row address for ACTIVE commands, and the  column address and auto precharge bit (A10) for READ/WRITE commands,  to select one location out of the memory array in the respective bank. A10  sampled (See Datasheet)", 30 A1 (in) "Address inputs: Provide the row address for ACTIVE commands, and the  column address and auto precharge bit (A10) for READ/WRITE commands,  to select one location out of the memory array in the respective bank. A10  sampled (See Datasheet)", 31 A2 (in) "Address inputs: Provide the row address for ACTIVE commands, and the  column address and auto precharge bit (A10) for READ/WRITE commands,  to select one location out of the memory array in the respective bank. A10  sampled (See Datasheet)", 32 A3 (in) "Address inputs: Provide the row address for ACTIVE commands, and the  column address and auto precharge bit (A10) for READ/WRITE commands,  to select one location out of the memory array in the respective bank. A10  sampled (See Datasheet)", 35 A4 (in) "Address inputs: Provide the row address for ACTIVE commands, and the  column address and auto precharge bit (A10) for READ/WRITE commands,  to select one location out of the memory array in the respective bank. A10  sampled (See Datasheet)", 36 A5 (in) "Address inputs: Provide the row address for ACTIVE commands, and the  column address and auto precharge bit (A10) for READ/WRITE commands,  to select one location out of the memory array in the respective bank. A10  sampled (See Datasheet)", 37 A6 (in) "Address inputs: Provide the row address for ACTIVE commands, and the  column address and auto precharge bit (A10) for READ/WRITE commands,  to select one location out of the memory array in the respective bank. A10  sampled (See Datasheet)", 38 A7 (in) "Address inputs: Provide the row address for ACTIVE commands, and the  column address and auto precharge bit (A10) for READ/WRITE commands,  to select one location out of the memory array in the respective bank. A10  sampled (See Datasheet)", 39 A8 (in) "Address inputs: Provide the row address for ACTIVE commands, and the  column address and auto precharge bit (A10) for READ/WRITE commands,  to select one location out of the memory array in the respective bank. A10  sampled (See Datasheet)", 40 A9 (in) "Address inputs: Provide the row address for ACTIVE commands, and the  column address and auto precharge bit (A10) for READ/WRITE commands,  to select one location out of the memory array in the respective bank. A10  sampled (See Datasheet)", 41 A11 (in) "Address inputs: Provide the row address for ACTIVE commands, and the  column address and auto precharge bit (A10) for READ/WRITE commands,  to select one location out of the memory array in the respective bank. A10  sampled (See Datasheet)", 42 A12 (in) "Address inputs: Provide the row address for ACTIVE commands, and the  column address and auto precharge bit (A10) for READ/WRITE commands,  to select one location out of the memory array in the respective bank. A10  sampled (See Datasheet)", 44 CKE (in) "Clock enable: CKE HIGH activates and CKE LOW deactivates the internal  clock, input buffers, and output drivers. Taking CKE LOW provides  PRECHARGE power-down and SELF REFRESH operations (all banks idle) or  ACTIVE (See Datasheet)", 45 CK (in) "Clock: CK and CK# are differential clock inputs. All address and control  input signals are sampled on the crossing of the positive edge of CK and  the negative edge of CK#. Output data (DQ and DQS) is referenced to the  (See Datasheet)", 46 CK# (in) "Clock: CK and CK# are differential clock inputs. All address and control  input signals are sampled on the crossing of the positive edge of CK and  the negative edge of CK#. Output data (DQ and DQS) is referenced to the  (See Datasheet)", 47 DM (in) "Input data mask: DM is an input mask signal for write data. Input data is  masked when DM is sampled HIGH along with that input data during a  write access. DM is sampled on both edges of DQS. Although DM pins are  (See Datasheet)", 51 DQS (io) "Data strobe: Output with read data, input with write data. DQS is edgealigned with read data, center-aligned with write data. It is used to capture  data. For the x16, LDQS is DQS for DQ[7:0] and UDQS is DQS for DQ[15:8].  (See Datasheet)", 56 DQ4 (io) "Data input/output: Data bus for x8.", 59 DQ5 (io) "Data input/output: Data bus for x8.", 62 DQ6 (io) "Data input/output: Data bus for x8.", 65 DQ7 (io) "Data input/output: Data bus for x8."
part B pins: 1 VDD (power) "Power supply.", 3 VDDQ (power) "DQ power supply: Isolated on the die for improved noise immunity.", 6 VSSQ (power) "DQ ground: Isolated on the die for improved noise immunity", 9 VDDQ (power) "DQ power supply: Isolated on the die for improved noise immunity.", 12 VSSQ (power) "DQ ground: Isolated on the die for improved noise immunity", 15 VDDQ (power) "DQ power supply: Isolated on the die for improved noise immunity.", 18 VDD (power) "Power supply.", 33 VDD (power) "Power supply.", 34 VSS (power) "Ground.", 48 VSS (power) "Ground.", 49 VREF (in) "SSTL_2 reference voltage.", 52 VSSQ (power) "DQ ground: Isolated on the die for improved noise immunity", 55 VDDQ (power) "DQ power supply: Isolated on the die for improved noise immunity.", 58 VSSQ (power) "DQ ground: Isolated on the die for improved noise immunity", 61 VDDQ (power) "DQ power supply: Isolated on the die for improved noise immunity.", 64 VSSQ (power) "DQ ground: Isolated on the die for improved noise immunity", 66 VSS (power) "Ground."
part C pins: 4 NC "No connect for x8: These pins should be left unconnected.", 7 NC "No connect for x8: These pins should be left unconnected.", 10 NC "No connect for x8: These pins should be left unconnected.", 13 NC "No connect for x8: These pins should be left unconnected.", 14 NC "No connect for x8: These pins should be left unconnected.", 16 NC "No connect for x8: These pins should be left unconnected.", 19 DNU "Do not use: Must float to minimize noise on VREF .", 20 NC "No connect for x8: These pins should be left unconnected.", 25 NC "No connect for x8: These pins should be left unconnected.", 43 NC "No connect for x8: These pins should be left unconnected.", 50 DNU "Do not use: Must float to minimize noise on VREF .", 53 NC "No connect for x8: These pins should be left unconnected.", 54 NC "No connect for x8: These pins should be left unconnected.", 57 NC "No connect for x8: These pins should be left unconnected.", 60 NC "No connect for x8: These pins should be left unconnected.", 63 NC "No connect for x8: These pins should be left unconnected."